# Altium schematic symbol library SCH - POWER - LINEAR VREG - TI TPS7B6833-Q1PWP.SchLib: 1 symbol
Pins are listed as number, name and electrical type; pins without a type are passive.

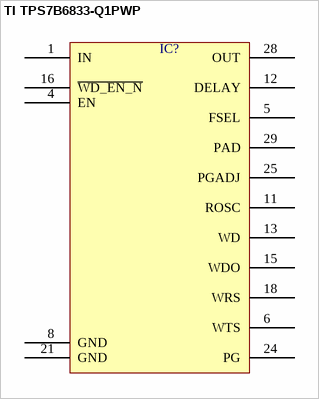
[diagram p0: symbol TI TPS7B6833-Q1PWP]

## TI TPS7B6833-Q1PWP
designator IC?  (value not drawn)
pins: 1 IN, 4 EN, 5 FSEL, 6 WTS, 8 GND, 11 ROSC, 12 DELAY, 13 WD, 15 WDO, 16 ~{WD_EN_N}, 18 WRS, 21 GND, 24 PG, 25 PGADJ, 28 OUT, 29 PAD